# Altium schematic symbol library EasyPay.SchLib: 11 symbols
Pins are listed as number, name and electrical type; pins without a type are passive.

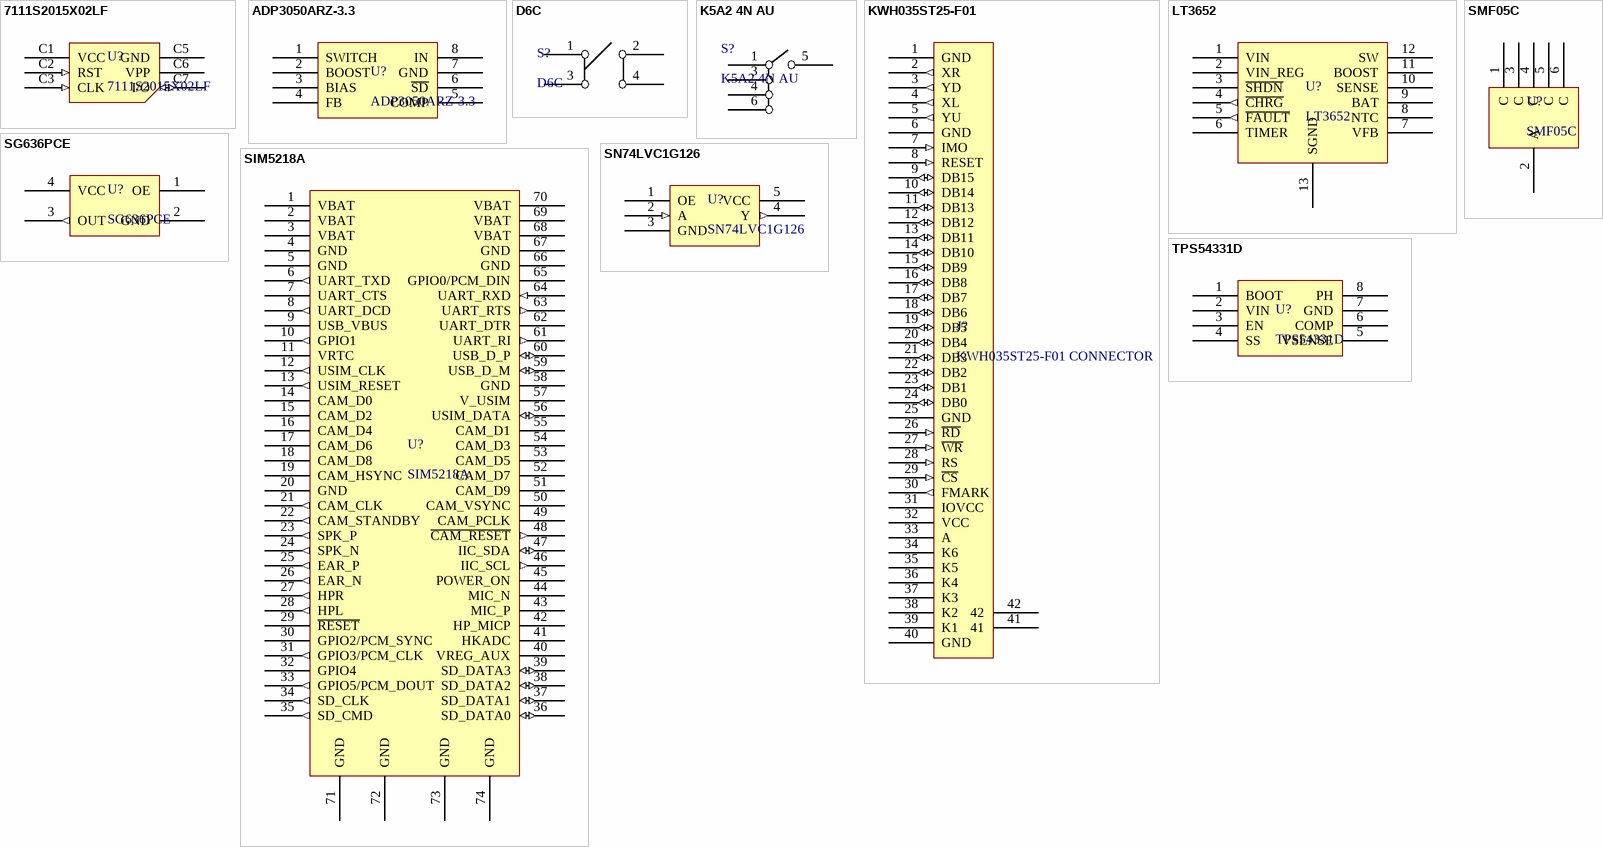
[diagram p0: symbols 7111S2015X02LF to TPS54331D]

## 7111S2015X02LF
designator U?
footprint 7111S2015X02LF
pins: C1 VCC (power), C2 RST (in), C3 CLK (in), C5 GND (power), C6 VPP (power), C7 I/O (io)

## ADP3050ARZ-3.3
designator U?
footprint SOIC127P600-8N (SOIC, 8-Leads, Body 4.9x3.9mm, Pitch 1.27mm, IPC Medium Density)
pins: 1 SWITCH (power), 2 BOOST (power), 3 BIAS (power), 4 FB (power), 5 COMP, 6 ~{SD} (power), 7 GND (power), 8 IN (power)

## D6C
designator S?
footprint D6C
pins: 1, 2, 3, 4

## K5A2 4N AU
designator S?
pins: 1, 2 hidden, 3, 4, 5, 6

## KWH035ST25-F01
designator J?, comment KWH035ST25-F01 CONNECTOR
footprint FH19SC-40S-0.5SH (Connector; FH19 Series; 40 Position; 0.5mm Spaced Bottom Contact)
pins: 1 GND (power), 2 XR (out), 3 YD (out), 4 XL (out), 5 YU (out), 6 GND (power), 7 IMO (in), 8 RESET (in), 9 DB15 (io), 10 DB14 (io), 11 DB13 (io), 12 DB12 (io), 13 DB11 (io), 14 DB10 (io), 15 DB9 (io), 16 DB8 (io), 17 DB7 (io), 18 DB6 (io), 19 DB5 (io), 20 DB4 (io), 21 DB3 (io), 22 DB2 (io), 23 DB1 (io), 24 DB0 (io), 25 GND (power), 26 ~{RD} (in), 27 ~{WR} (in), 28 RS (in), 29 ~{CS} (in), 30 FMARK (out), 31 IOVCC (power), 32 VCC (power), 33 A (power), 34 K6 (power), 35 K5 (power), 36 K4 (power), 37 K3 (power), 38 K2 (power), 39 K1 (power), 40 GND (power), 41, 42

## LT3652
designator U?
footprint LT3652MSE
pins: 1 VIN (power), 2 VIN_REG (power), 3 ~{SHDN} (power), 4 ~{CHRG} (out), 5 ~{FAULT} (out), 6 TIMER (power), 7 VFB (power), 8 NTC, 9 BAT (power), 10 SENSE (power), 11 BOOST (power), 12 SW (power), 13 SGND (power)

## SG636PCE
designator U?
footprint SG-636PCE
pins: 1 OE, 2 GND (power), 3 OUT (out), 4 VCC (power)

## SIM5218A
designator U?
footprint SIM5218A v2
pins: 1 VBAT (power), 2 VBAT (power), 3 VBAT (power), 4 GND (power), 5 GND (power), 6 UART_TXD (out), 7 UART_CTS, 8 UART_DCD (out), 9 USB_VBUS, 10 GPIO1 (out), 11 VRTC (power), 12 USIM_CLK (out), 13 USIM_RESET (out), 14 CAM_D0, 15 CAM_D2, 16 CAM_D4, 17 CAM_D6, 18 CAM_D8, 19 CAM_HSYNC, 20 GND (power), 21 CAM_CLK (out), 22 CAM_STANDBY (out), 23 SPK_P (out), 24 SPK_N (out), 25 EAR_P (out), 26 EAR_N (out), 27 HPR (out), 28 HPL (out), 29 ~{RESET}, 30 GPIO2/PCM_SYNC, 31 GPIO3/PCM_CLK (out), 32 GPIO4, 33 GPIO5/PCM_DOUT (out), 34 SD_CLK (out), 35 SD_CMD (out), 36 SD_DATA0 (io), 37 SD_DATA1 (io), 38 SD_DATA2 (io), 39 SD_DATA3 (io), 40 VREG_AUX (power), 41 HKADC, 42 HP_MICP, 43 MIC_P, 44 MIC_N, 45 POWER_ON, 46 IIC_SCL (out), 47 IIC_SDA (io), 48 ~{CAM_RESET} (out), 49 CAM_PCLK, 50 CAM_VSYNC, 51 CAM_D9, 52 CAM_D7, 53 CAM_D5, 54 CAM_D3, 55 CAM_D1, 56 USIM_DATA (io), 57 V_USIM (power), 58 GND (power), 59 USB_D_M (io), 60 USB_D_P (io), 61 UART_RI (out), 62 UART_DTR, 63 UART_RTS (out), 64 UART_RXD (in), 65 GPIO0/PCM_DIN, 66 GND (power), 67 GND (power), 68 VBAT (power), 69 VBAT (power), 70 VBAT (power), 71 GND (power), 72 GND (power), 73 GND (power), 74 GND (power)

## SMF05C
designator U?
footprint SOT363-6N (SOT363, 6-Leads, Body 2x1.3mm, Pitch 0.65mm, Lead Span 2.1mm, IPC Medium Density)
pins: 1 C, 2 A (power), 3 C, 4 C, 5 C, 6 C

## SN74LVC1G126
designator U?
footprint SOT353-5N (SOT353, 5-Leads, Body 2x1.3mm, Pitch 0.65mm, Lead Span 2.1mm, IPC Medium Density)
pins: 1 OE, 2 A (in), 3 GND (power), 4 Y (out), 5 VCC (power)

## TPS54331D
designator U?
footprint SOIC127P600-8N (SOIC, 8-Leads, Body 4.9x3.9mm, Pitch 1.27mm, IPC Medium Density)
pins: 1 BOOT (power), 2 VIN (power), 3 EN, 4 SS (power), 5 VSENSE (power), 6 COMP (power), 7 GND (power), 8 PH (power)